# EAGLE library part ARDUINO-NANO-R3 (library Development Boards)
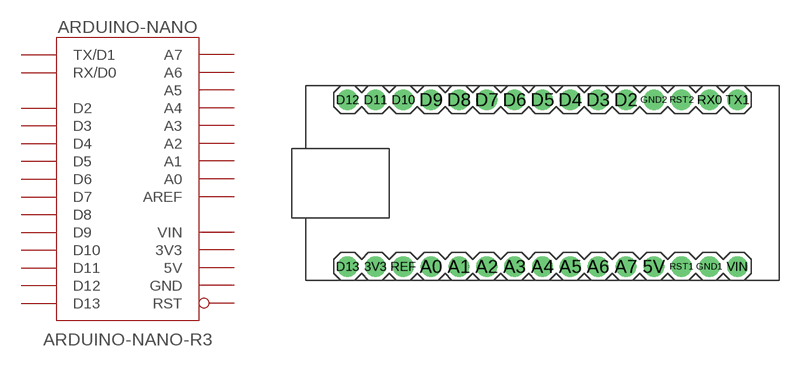
[diagram p12: symbol with the pads of ARDUINO-NANO-3.0-2; footprint ARDUINO-NANO-3.0-2]

Designator prefix ARDUINO-NANO

## ARDUINO-NANO-R3 (DATASHEET: value; DIGIKEY-PART-NUMBER: value; LINK: value; MANUFACTURER: value; MPN: value; TECHNOLOGY: value; UNIT-PRICE: value)  [ARDUINO-NANO-3.0-2]
3V3  3V3
5V  5V
A0  A0
A1  A1
A2  A2
A3  A3
A4  A4
A5  A5
A6  A6
A7  A7
D2  D2
D3  D3
D4  D4
D5  D5
D6  D6
D7  D7
D8  D8
D9  D9
D10  D10
D11  D11
D12  D12
D13  D13
GND1  GND
GND2  GND
REF  AREF
RST1  RST
RST2  RST
RX0  RX/D0
TX1  TX/D1
VIN  VIN

## Footprint ARDUINO-NANO-3.0-2 (pad centres in mm)
Arduino Nano 3.0
drill 1 pad 1.88: 3V3 -15.24,-7.62; 5V 10.16,-7.62; A0 -10.16,-7.62; A1 -7.62,-7.62; A2 -5.08,-7.62; A3 -2.54,-7.62; A4 0,-7.62; A5 2.54,-7.62; A6 5.08,-7.62; A7 7.62,-7.62; D2 7.62,7.62; D3 5.08,7.62; D4 2.54,7.62; D5 0,7.62; D6 -2.54,7.62; D7 -5.08,7.62; D8 -7.62,7.62; D9 -10.16,7.62; D10 -12.7,7.62; D11 -15.24,7.62; D12 -17.78,7.62; D13 -17.78,-7.62; GND1 15.24,-7.62; GND2 10.16,7.62; REF -12.7,-7.62; RST1 12.7,-7.62; RST2 12.7,7.62; RX0 15.24,7.62; TX1 17.78,7.62; VIN 17.78,-7.62